# EAGLE library part WTV020 (library lpatiny)
Audio module
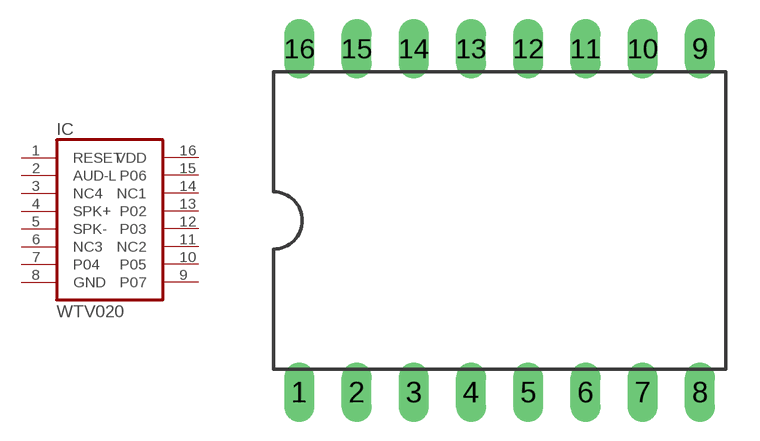
[diagram p1: symbol with the pads of DIL16-6; footprint DIL16-6]

Designator prefix IC

## WTV020  [DIL16-6]
1  RESET  in
2  AUD-L  out
3  NC4  nc
4  SPK+  out
5  SPK-  out
6  NC3  nc
7  P04  in
8  GND  in
9  P07  in
10  P05  in
11  NC2  nc
12  P03  in
13  P02  in
14  NC1  nc
15  P06  out
16  VDD  pwr

## Footprint DIL16-6 (pad centres in mm)
Dual In Line Package 0.6 inch
drill 0.813 long: 1 -13.97,-7.62; 2 -11.43,-7.62; 3 -8.89,-7.62; 4 -6.35,-7.62; 5 -3.81,-7.62; 6 -1.27,-7.62; 7 1.27,-7.62; 8 3.81,-7.62; 9 3.81,7.62; 10 1.27,7.62; 11 -1.27,7.62; 12 -3.81,7.62; 13 -6.35,7.62; 14 -8.89,7.62; 15 -11.43,7.62; 16 -13.97,7.62